# Altium integrated library Altium_WRIS-RSKS (rev23a).IntLib: 507 symbols (part 6 of 10)
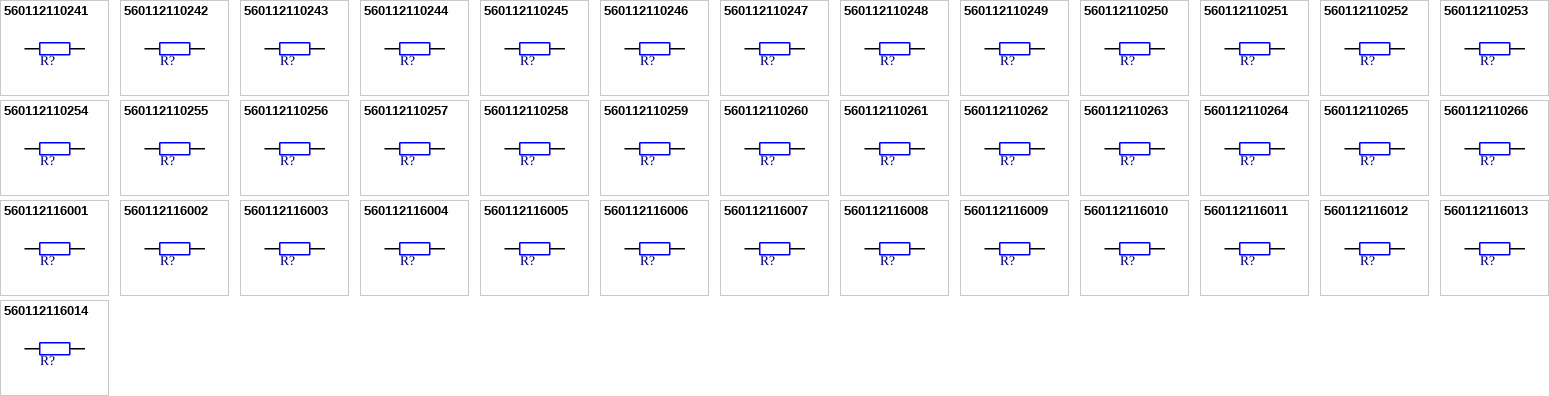
[diagram p17: symbols 560112110241 to 560112116014]

## 560112110266
designator R?, comment 2700Ohm, 100mW  (value not drawn)
WRIS-RSKS Thick Film Resistor, size 0402, 2700Ohm, 100mW; Manufacturer Part Number: 560112110266; Manufacturer: Wurth Elektronik; Case/Size Code: 0402; Limiting Element Voltage: 50V; Resistance Tolerance: +/-1%; Temperature Coefficient of Resistance Min: -100ppm/°C; Temperature Coefficient of Resistance Max: 100ppm/°C; Category: Thick Film Resistors; Match Code: WRIS-RSKS; ComponentLink1Description: Website Link; ComponentLink1URL: https://www.we-online.com/redexpert/article/560112110266?ad; ComponentLink2Description: Datasheet Link; ComponentLink2URL: https://www.we-online.com/redexpert/spec/560112110266?ad; Mount: Surface Mount; Operating Temperature Max: 155°C; Operating Temperature Min: -55°C; Packaging: Tape and Reel; Length: 1mm; Width: 0.5mm; Height: 0.35mm; Rated Power: 100mW; Resistance: 2700Ohm
footprint WRIS-RSKS_0402
pins: 1, 2

## 560112116001
designator R?, comment 100mW  (value not drawn)
WRIS-RSKS Thick Film Resistor, size 0603, 100mW; Manufacturer Part Number: 560112116001; Manufacturer: Wurth Elektronik; Case/Size Code: 0603; Category: Thick Film Resistors; Match Code: WRIS-RSKS; ComponentLink1Description: Website Link; ComponentLink1URL: https://www.we-online.com/redexpert/article/560112116001?ad; ComponentLink2Description: Datasheet Link; ComponentLink2URL: https://www.we-online.com/redexpert/spec/560112116001?ad; Mount: Surface Mount; Operating Temperature Max: 155°C; Operating Temperature Min: -55°C; Packaging: Tape and Reel; Length: 1.6mm; Width: 0.8mm; Height: 0.45mm; Rated Power: 100mW
footprint WRIS-RSKS_0603_Reflow
footprint WRIS-RSKS_0603_Wave
pins: 1, 2

## 560112116002
designator R?, comment 8200Ohm, 100mW  (value not drawn)
WRIS-RSKS Thick Film Resistor, size 0603, 8200Ohm, 100mW; Manufacturer Part Number: 560112116002; Manufacturer: Wurth Elektronik; Case/Size Code: 0603; Limiting Element Voltage: 75V; Resistance Tolerance: +/-1%; Temperature Coefficient of Resistance Min: -100ppm/°C; Temperature Coefficient of Resistance Max: 100ppm/°C; Category: Thick Film Resistors; Match Code: WRIS-RSKS; ComponentLink1Description: Website Link; ComponentLink1URL: https://www.we-online.com/redexpert/article/560112116002?ad; ComponentLink2Description: Datasheet Link; ComponentLink2URL: https://www.we-online.com/redexpert/spec/560112116002?ad; Mount: Surface Mount; Operating Temperature Max: 155°C; Operating Temperature Min: -55°C; Packaging: Tape and Reel; Length: 1.6mm; Width: 0.8mm; Height: 0.45mm; Rated Power: 100mW; Resistance: 8200Ohm
footprint WRIS-RSKS_0603_Reflow
footprint WRIS-RSKS_0603_Wave
pins: 1, 2

## 560112116003
designator R?, comment 40200Ohm, 100mW  (value not drawn)
WRIS-RSKS Thick Film Resistor, size 0603, 40200Ohm, 100mW; Manufacturer Part Number: 560112116003; Manufacturer: Wurth Elektronik; Case/Size Code: 0603; Limiting Element Voltage: 75V; Resistance Tolerance: +/-1%; Temperature Coefficient of Resistance Min: -100ppm/°C; Temperature Coefficient of Resistance Max: 100ppm/°C; Category: Thick Film Resistors; Match Code: WRIS-RSKS; ComponentLink1Description: Website Link; ComponentLink1URL: https://www.we-online.com/redexpert/article/560112116003?ad; ComponentLink2Description: Datasheet Link; ComponentLink2URL: https://www.we-online.com/redexpert/spec/560112116003?ad; Mount: Surface Mount; Operating Temperature Max: 155°C; Operating Temperature Min: -55°C; Packaging: Tape and Reel; Length: 1.6mm; Width: 0.8mm; Height: 0.45mm; Rated Power: 100mW; Resistance: 40200Ohm
footprint WRIS-RSKS_0603_Reflow
footprint WRIS-RSKS_0603_Wave
pins: 1, 2

## 560112116004
designator R?, comment 100000Ohm, 100mW  (value not drawn)
WRIS-RSKS Thick Film Resistor, size 0603, 100000Ohm, 100mW; Manufacturer Part Number: 560112116004; Manufacturer: Wurth Elektronik; Case/Size Code: 0603; Limiting Element Voltage: 75V; Resistance Tolerance: +/-1%; Temperature Coefficient of Resistance Min: -100ppm/°C; Temperature Coefficient of Resistance Max: 100ppm/°C; Category: Thick Film Resistors; Match Code: WRIS-RSKS; ComponentLink1Description: Website Link; ComponentLink1URL: https://www.we-online.com/redexpert/article/560112116004?ad; ComponentLink2Description: Datasheet Link; ComponentLink2URL: https://www.we-online.com/redexpert/spec/560112116004?ad; Mount: Surface Mount; Operating Temperature Max: 155°C; Operating Temperature Min: -55°C; Packaging: Tape and Reel; Length: 1.6mm; Width: 0.8mm; Height: 0.45mm; Rated Power: 100mW; Resistance: 100000Ohm
footprint WRIS-RSKS_0603_Reflow
footprint WRIS-RSKS_0603_Wave
pins: 1, 2

## 560112116005
designator R?, comment 10000Ohm, 100mW  (value not drawn)
WRIS-RSKS Thick Film Resistor, size 0603, 10000Ohm, 100mW; Manufacturer Part Number: 560112116005; Manufacturer: Wurth Elektronik; Case/Size Code: 0603; Limiting Element Voltage: 75V; Resistance Tolerance: +/-1%; Temperature Coefficient of Resistance Min: -100ppm/°C; Temperature Coefficient of Resistance Max: 100ppm/°C; Category: Thick Film Resistors; Match Code: WRIS-RSKS; ComponentLink1Description: Website Link; ComponentLink1URL: https://www.we-online.com/redexpert/article/560112116005?ad; ComponentLink2Description: Datasheet Link; ComponentLink2URL: https://www.we-online.com/redexpert/spec/560112116005?ad; Mount: Surface Mount; Operating Temperature Max: 155°C; Operating Temperature Min: -55°C; Packaging: Tape and Reel; Length: 1.6mm; Width: 0.8mm; Height: 0.45mm; Rated Power: 100mW; Resistance: 10000Ohm
footprint WRIS-RSKS_0603_Reflow
footprint WRIS-RSKS_0603_Wave
pins: 1, 2

## 560112116006
designator R?, comment 4700Ohm, 100mW  (value not drawn)
WRIS-RSKS Thick Film Resistor, size 0603, 4700Ohm, 100mW; Manufacturer Part Number: 560112116006; Manufacturer: Wurth Elektronik; Case/Size Code: 0603; Limiting Element Voltage: 75V; Resistance Tolerance: +/-1%; Temperature Coefficient of Resistance Min: -100ppm/°C; Temperature Coefficient of Resistance Max: 100ppm/°C; Category: Thick Film Resistors; Match Code: WRIS-RSKS; ComponentLink1Description: Website Link; ComponentLink1URL: https://www.we-online.com/redexpert/article/560112116006?ad; ComponentLink2Description: Datasheet Link; ComponentLink2URL: https://www.we-online.com/redexpert/spec/560112116006?ad; Mount: Surface Mount; Operating Temperature Max: 155°C; Operating Temperature Min: -55°C; Packaging: Tape and Reel; Length: 1.6mm; Width: 0.8mm; Height: 0.45mm; Rated Power: 100mW; Resistance: 4700Ohm
footprint WRIS-RSKS_0603_Reflow
footprint WRIS-RSKS_0603_Wave
pins: 1, 2

## 560112116007
designator R?, comment 6800Ohm, 100mW  (value not drawn)
WRIS-RSKS Thick Film Resistor, size 0603, 6800Ohm, 100mW; Manufacturer Part Number: 560112116007; Manufacturer: Wurth Elektronik; Case/Size Code: 0603; Limiting Element Voltage: 75V; Resistance Tolerance: +/-1%; Temperature Coefficient of Resistance Min: -100ppm/°C; Temperature Coefficient of Resistance Max: 100ppm/°C; Category: Thick Film Resistors; Match Code: WRIS-RSKS; ComponentLink1Description: Website Link; ComponentLink1URL: https://www.we-online.com/redexpert/article/560112116007?ad; ComponentLink2Description: Datasheet Link; ComponentLink2URL: https://www.we-online.com/redexpert/spec/560112116007?ad; Mount: Surface Mount; Operating Temperature Max: 155°C; Operating Temperature Min: -55°C; Packaging: Tape and Reel; Length: 1.6mm; Width: 0.8mm; Height: 0.45mm; Rated Power: 100mW; Resistance: 6800Ohm
footprint WRIS-RSKS_0603_Reflow
footprint WRIS-RSKS_0603_Wave
pins: 1, 2

## 560112116008
designator R?, comment 100Ohm, 100mW  (value not drawn)
WRIS-RSKS Thick Film Resistor, size 0603, 100Ohm, 100mW; Manufacturer Part Number: 560112116008; Manufacturer: Wurth Elektronik; Case/Size Code: 0603; Limiting Element Voltage: 75V; Resistance Tolerance: +/-5%; Temperature Coefficient of Resistance Min: -100ppm/°C; Temperature Coefficient of Resistance Max: 100ppm/°C; Category: Thick Film Resistors; Match Code: WRIS-RSKS; ComponentLink1Description: Website Link; ComponentLink1URL: https://www.we-online.com/redexpert/article/560112116008?ad; ComponentLink2Description: Datasheet Link; ComponentLink2URL: https://www.we-online.com/redexpert/spec/560112116008?ad; Mount: Surface Mount; Operating Temperature Max: 155°C; Operating Temperature Min: -55°C; Packaging: Tape and Reel; Length: 1.6mm; Width: 0.8mm; Height: 0.45mm; Rated Power: 100mW; Resistance: 100Ohm
footprint WRIS-RSKS_0603_Reflow
footprint WRIS-RSKS_0603_Wave
pins: 1, 2

## 560112116009
designator R?, comment 100Ohm, 100mW  (value not drawn)
WRIS-RSKS Thick Film Resistor, size 0603, 100Ohm, 100mW; Manufacturer Part Number: 560112116009; Manufacturer: Wurth Elektronik; Case/Size Code: 0603; Limiting Element Voltage: 75V; Resistance Tolerance: +/-1%; Temperature Coefficient of Resistance Min: -100ppm/°C; Temperature Coefficient of Resistance Max: 100ppm/°C; Category: Thick Film Resistors; Match Code: WRIS-RSKS; ComponentLink1Description: Website Link; ComponentLink1URL: https://www.we-online.com/redexpert/article/560112116009?ad; ComponentLink2Description: Datasheet Link; ComponentLink2URL: https://www.we-online.com/redexpert/spec/560112116009?ad; Mount: Surface Mount; Operating Temperature Max: 155°C; Operating Temperature Min: -55°C; Packaging: Tape and Reel; Length: 1.6mm; Width: 0.8mm; Height: 0.45mm; Rated Power: 100mW; Resistance: 100Ohm
footprint WRIS-RSKS_0603_Reflow
footprint WRIS-RSKS_0603_Wave
pins: 1, 2

## 560112116010
designator R?, comment 2700Ohm, 100mW  (value not drawn)
WRIS-RSKS Thick Film Resistor, size 0603, 2700Ohm, 100mW; Manufacturer Part Number: 560112116010; Manufacturer: Wurth Elektronik; Case/Size Code: 0603; Limiting Element Voltage: 75V; Resistance Tolerance: +/-1%; Temperature Coefficient of Resistance Min: -100ppm/°C; Temperature Coefficient of Resistance Max: 100ppm/°C; Category: Thick Film Resistors; Match Code: WRIS-RSKS; ComponentLink1Description: Website Link; ComponentLink1URL: https://www.we-online.com/redexpert/article/560112116010?ad; ComponentLink2Description: Datasheet Link; ComponentLink2URL: https://www.we-online.com/redexpert/spec/560112116010?ad; Mount: Surface Mount; Operating Temperature Max: 155°C; Operating Temperature Min: -55°C; Packaging: Tape and Reel; Length: 1.6mm; Width: 0.8mm; Height: 0.45mm; Rated Power: 100mW; Resistance: 2700Ohm
footprint WRIS-RSKS_0603_Reflow
footprint WRIS-RSKS_0603_Wave
pins: 1, 2

## 560112116011
designator R?, comment 22000Ohm, 100mW  (value not drawn)
WRIS-RSKS Thick Film Resistor, size 0603, 22000Ohm, 100mW; Manufacturer Part Number: 560112116011; Manufacturer: Wurth Elektronik; Case/Size Code: 0603; Limiting Element Voltage: 75V; Resistance Tolerance: +/-5%; Temperature Coefficient of Resistance Min: -100ppm/°C; Temperature Coefficient of Resistance Max: 100ppm/°C; Category: Thick Film Resistors; Match Code: WRIS-RSKS; ComponentLink1Description: Website Link; ComponentLink1URL: https://www.we-online.com/redexpert/article/560112116011?ad; ComponentLink2Description: Datasheet Link; ComponentLink2URL: https://www.we-online.com/redexpert/spec/560112116011?ad; Mount: Surface Mount; Operating Temperature Max: 155°C; Operating Temperature Min: -55°C; Packaging: Tape and Reel; Length: 1.6mm; Width: 0.8mm; Height: 0.45mm; Rated Power: 100mW; Resistance: 22000Ohm
footprint WRIS-RSKS_0603_Reflow
footprint WRIS-RSKS_0603_Wave
pins: 1, 2

## 560112116012
designator R?, comment 10000Ohm, 100mW  (value not drawn)
WRIS-RSKS Thick Film Resistor, size 0603, 10000Ohm, 100mW; Manufacturer Part Number: 560112116012; Manufacturer: Wurth Elektronik; Case/Size Code: 0603; Limiting Element Voltage: 75V; Resistance Tolerance: +/-5%; Temperature Coefficient of Resistance Min: -100ppm/°C; Temperature Coefficient of Resistance Max: 100ppm/°C; Category: Thick Film Resistors; Match Code: WRIS-RSKS; ComponentLink1Description: Website Link; ComponentLink1URL: https://www.we-online.com/redexpert/article/560112116012?ad; ComponentLink2Description: Datasheet Link; ComponentLink2URL: https://www.we-online.com/redexpert/spec/560112116012?ad; Mount: Surface Mount; Operating Temperature Max: 155°C; Operating Temperature Min: -55°C; Packaging: Tape and Reel; Length: 1.6mm; Width: 0.8mm; Height: 0.45mm; Rated Power: 100mW; Resistance: 10000Ohm
footprint WRIS-RSKS_0603_Reflow
footprint WRIS-RSKS_0603_Wave
pins: 1, 2

## 560112116013
designator R?, comment 10Ohm, 100mW  (value not drawn)
WRIS-RSKS Thick Film Resistor, size 0603, 10Ohm, 100mW; Manufacturer Part Number: 560112116013; Manufacturer: Wurth Elektronik; Case/Size Code: 0603; Limiting Element Voltage: 75V; Resistance Tolerance: +/-1%; Temperature Coefficient of Resistance Min: -200ppm/°C; Temperature Coefficient of Resistance Max: 400ppm/°C; Category: Thick Film Resistors; Match Code: WRIS-RSKS; ComponentLink1Description: Website Link; ComponentLink1URL: https://www.we-online.com/redexpert/article/560112116013?ad; ComponentLink2Description: Datasheet Link; ComponentLink2URL: https://www.we-online.com/redexpert/spec/560112116013?ad; Mount: Surface Mount; Operating Temperature Max: 155°C; Operating Temperature Min: -55°C; Packaging: Tape and Reel; Length: 1.6mm; Width: 0.8mm; Height: 0.45mm; Rated Power: 100mW; Resistance: 10Ohm
footprint WRIS-RSKS_0603_Reflow
footprint WRIS-RSKS_0603_Wave
pins: 1, 2

## 560112116014
designator R?, comment 1000Ohm, 100mW  (value not drawn)
WRIS-RSKS Thick Film Resistor, size 0603, 1000Ohm, 100mW; Manufacturer Part Number: 560112116014; Manufacturer: Wurth Elektronik; Case/Size Code: 0603; Limiting Element Voltage: 75V; Resistance Tolerance: +/-1%; Temperature Coefficient of Resistance Min: -100ppm/°C; Temperature Coefficient of Resistance Max: 100ppm/°C; Category: Thick Film Resistors; Match Code: WRIS-RSKS; ComponentLink1Description: Website Link; ComponentLink1URL: https://www.we-online.com/redexpert/article/560112116014?ad; ComponentLink2Description: Datasheet Link; ComponentLink2URL: https://www.we-online.com/redexpert/spec/560112116014?ad; Mount: Surface Mount; Operating Temperature Max: 155°C; Operating Temperature Min: -55°C; Packaging: Tape and Reel; Length: 1.6mm; Width: 0.8mm; Height: 0.45mm; Rated Power: 100mW; Resistance: 1000Ohm
footprint WRIS-RSKS_0603_Reflow
footprint WRIS-RSKS_0603_Wave
pins: 1, 2

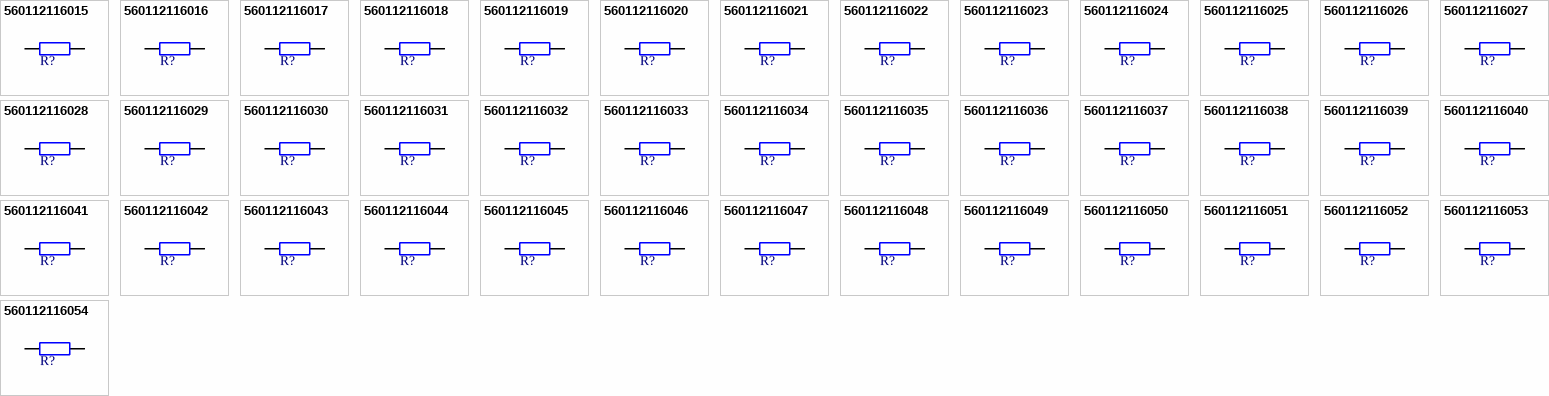
[diagram p7: symbols 560112116015 to 560112116054]

## 560112116015
designator R?, comment 20000Ohm, 100mW  (value not drawn)
WRIS-RSKS Thick Film Resistor, size 0603, 20000Ohm, 100mW; Manufacturer Part Number: 560112116015; Manufacturer: Wurth Elektronik; Case/Size Code: 0603; Limiting Element Voltage: 75V; Resistance Tolerance: +/-1%; Temperature Coefficient of Resistance Min: -100ppm/°C; Temperature Coefficient of Resistance Max: 100ppm/°C; Category: Thick Film Resistors; Match Code: WRIS-RSKS; ComponentLink1Description: Website Link; ComponentLink1URL: https://www.we-online.com/redexpert/article/560112116015?ad; ComponentLink2Description: Datasheet Link; ComponentLink2URL: https://www.we-online.com/redexpert/spec/560112116015?ad; Mount: Surface Mount; Operating Temperature Max: 155°C; Operating Temperature Min: -55°C; Packaging: Tape and Reel; Length: 1.6mm; Width: 0.8mm; Height: 0.45mm; Rated Power: 100mW; Resistance: 20000Ohm
footprint WRIS-RSKS_0603_Reflow
footprint WRIS-RSKS_0603_Wave
pins: 1, 2

## 560112116016
designator R?, comment 1000Ohm, 100mW  (value not drawn)
WRIS-RSKS Thick Film Resistor, size 0603, 1000Ohm, 100mW; Manufacturer Part Number: 560112116016; Manufacturer: Wurth Elektronik; Case/Size Code: 0603; Limiting Element Voltage: 75V; Resistance Tolerance: +/-5%; Temperature Coefficient of Resistance Min: -100ppm/°C; Temperature Coefficient of Resistance Max: 100ppm/°C; Category: Thick Film Resistors; Match Code: WRIS-RSKS; ComponentLink1Description: Website Link; ComponentLink1URL: https://www.we-online.com/redexpert/article/560112116016?ad; ComponentLink2Description: Datasheet Link; ComponentLink2URL: https://www.we-online.com/redexpert/spec/560112116016?ad; Mount: Surface Mount; Operating Temperature Max: 155°C; Operating Temperature Min: -55°C; Packaging: Tape and Reel; Length: 1.6mm; Width: 0.8mm; Height: 0.45mm; Rated Power: 100mW; Resistance: 1000Ohm
footprint WRIS-RSKS_0603_Reflow
footprint WRIS-RSKS_0603_Wave
pins: 1, 2

## 560112116017
designator R?, comment 5600Ohm, 100mW  (value not drawn)
WRIS-RSKS Thick Film Resistor, size 0603, 5600Ohm, 100mW; Manufacturer Part Number: 560112116017; Manufacturer: Wurth Elektronik; Case/Size Code: 0603; Limiting Element Voltage: 75V; Resistance Tolerance: +/-1%; Temperature Coefficient of Resistance Min: -100ppm/°C; Temperature Coefficient of Resistance Max: 100ppm/°C; Category: Thick Film Resistors; Match Code: WRIS-RSKS; ComponentLink1Description: Website Link; ComponentLink1URL: https://www.we-online.com/redexpert/article/560112116017?ad; ComponentLink2Description: Datasheet Link; ComponentLink2URL: https://www.we-online.com/redexpert/spec/560112116017?ad; Mount: Surface Mount; Operating Temperature Max: 155°C; Operating Temperature Min: -55°C; Packaging: Tape and Reel; Length: 1.6mm; Width: 0.8mm; Height: 0.45mm; Rated Power: 100mW; Resistance: 5600Ohm
footprint WRIS-RSKS_0603_Reflow
footprint WRIS-RSKS_0603_Wave
pins: 1, 2

## 560112116018
designator R?, comment 127000Ohm, 100mW  (value not drawn)
WRIS-RSKS Thick Film Resistor, size 0603, 127000Ohm, 100mW; Manufacturer Part Number: 560112116018; Manufacturer: Wurth Elektronik; Case/Size Code: 0603; Limiting Element Voltage: 75V; Resistance Tolerance: +/-1%; Temperature Coefficient of Resistance Min: -100ppm/°C; Temperature Coefficient of Resistance Max: 100ppm/°C; Category: Thick Film Resistors; Match Code: WRIS-RSKS; ComponentLink1Description: Website Link; ComponentLink1URL: https://www.we-online.com/redexpert/article/560112116018?ad; ComponentLink2Description: Datasheet Link; ComponentLink2URL: https://www.we-online.com/redexpert/spec/560112116018?ad; Mount: Surface Mount; Operating Temperature Max: 155°C; Operating Temperature Min: -55°C; Packaging: Tape and Reel; Length: 1.6mm; Width: 0.8mm; Height: 0.45mm; Rated Power: 100mW; Resistance: 127000Ohm
footprint WRIS-RSKS_0603_Reflow
footprint WRIS-RSKS_0603_Wave
pins: 1, 2

## 560112116019
designator R?, comment 470000Ohm, 100mW  (value not drawn)
WRIS-RSKS Thick Film Resistor, size 0603, 470000Ohm, 100mW; Manufacturer Part Number: 560112116019; Manufacturer: Wurth Elektronik; Case/Size Code: 0603; Limiting Element Voltage: 75V; Resistance Tolerance: +/-1%; Temperature Coefficient of Resistance Min: -100ppm/°C; Temperature Coefficient of Resistance Max: 100ppm/°C; Category: Thick Film Resistors; Match Code: WRIS-RSKS; ComponentLink1Description: Website Link; ComponentLink1URL: https://www.we-online.com/redexpert/article/560112116019?ad; ComponentLink2Description: Datasheet Link; ComponentLink2URL: https://www.we-online.com/redexpert/spec/560112116019?ad; Mount: Surface Mount; Operating Temperature Max: 155°C; Operating Temperature Min: -55°C; Packaging: Tape and Reel; Length: 1.6mm; Width: 0.8mm; Height: 0.45mm; Rated Power: 100mW; Resistance: 470000Ohm
footprint WRIS-RSKS_0603_Reflow
footprint WRIS-RSKS_0603_Wave
pins: 1, 2

## 560112116020
designator R?, comment 330Ohm, 100mW  (value not drawn)
WRIS-RSKS Thick Film Resistor, size 0603, 330Ohm, 100mW; Manufacturer Part Number: 560112116020; Manufacturer: Wurth Elektronik; Case/Size Code: 0603; Limiting Element Voltage: 75V; Resistance Tolerance: +/-1%; Temperature Coefficient of Resistance Min: -100ppm/°C; Temperature Coefficient of Resistance Max: 100ppm/°C; Category: Thick Film Resistors; Match Code: WRIS-RSKS; ComponentLink1Description: Website Link; ComponentLink1URL: https://www.we-online.com/redexpert/article/560112116020?ad; ComponentLink2Description: Datasheet Link; ComponentLink2URL: https://www.we-online.com/redexpert/spec/560112116020?ad; Mount: Surface Mount; Operating Temperature Max: 155°C; Operating Temperature Min: -55°C; Packaging: Tape and Reel; Length: 1.6mm; Width: 0.8mm; Height: 0.45mm; Rated Power: 100mW; Resistance: 330Ohm
footprint WRIS-RSKS_0603_Reflow
footprint WRIS-RSKS_0603_Wave
pins: 1, 2

## 560112116021
designator R?, comment 3900Ohm, 100mW  (value not drawn)
WRIS-RSKS Thick Film Resistor, size 0603, 3900Ohm, 100mW; Manufacturer Part Number: 560112116021; Manufacturer: Wurth Elektronik; Case/Size Code: 0603; Limiting Element Voltage: 75V; Resistance Tolerance: +/-1%; Temperature Coefficient of Resistance Min: -100ppm/°C; Temperature Coefficient of Resistance Max: 100ppm/°C; Category: Thick Film Resistors; Match Code: WRIS-RSKS; ComponentLink1Description: Website Link; ComponentLink1URL: https://www.we-online.com/redexpert/article/560112116021?ad; ComponentLink2Description: Datasheet Link; ComponentLink2URL: https://www.we-online.com/redexpert/spec/560112116021?ad; Mount: Surface Mount; Operating Temperature Max: 155°C; Operating Temperature Min: -55°C; Packaging: Tape and Reel; Length: 1.6mm; Width: 0.8mm; Height: 0.45mm; Rated Power: 100mW; Resistance: 3900Ohm
footprint WRIS-RSKS_0603_Reflow
footprint WRIS-RSKS_0603_Wave
pins: 1, 2

## 560112116022
designator R?, comment 22000Ohm, 100mW  (value not drawn)
WRIS-RSKS Thick Film Resistor, size 0603, 22000Ohm, 100mW; Manufacturer Part Number: 560112116022; Manufacturer: Wurth Elektronik; Case/Size Code: 0603; Limiting Element Voltage: 75V; Resistance Tolerance: +/-1%; Temperature Coefficient of Resistance Min: -100ppm/°C; Temperature Coefficient of Resistance Max: 100ppm/°C; Category: Thick Film Resistors; Match Code: WRIS-RSKS; ComponentLink1Description: Website Link; ComponentLink1URL: https://www.we-online.com/redexpert/article/560112116022?ad; ComponentLink2Description: Datasheet Link; ComponentLink2URL: https://www.we-online.com/redexpert/spec/560112116022?ad; Mount: Surface Mount; Operating Temperature Max: 155°C; Operating Temperature Min: -55°C; Packaging: Tape and Reel; Length: 1.6mm; Width: 0.8mm; Height: 0.45mm; Rated Power: 100mW; Resistance: 22000Ohm
footprint WRIS-RSKS_0603_Reflow
footprint WRIS-RSKS_0603_Wave
pins: 1, 2

## 560112116023
designator R?, comment 27000Ohm, 100mW  (value not drawn)
WRIS-RSKS Thick Film Resistor, size 0603, 27000Ohm, 100mW; Manufacturer Part Number: 560112116023; Manufacturer: Wurth Elektronik; Case/Size Code: 0603; Limiting Element Voltage: 75V; Resistance Tolerance: +/-1%; Temperature Coefficient of Resistance Min: -100ppm/°C; Temperature Coefficient of Resistance Max: 100ppm/°C; Category: Thick Film Resistors; Match Code: WRIS-RSKS; ComponentLink1Description: Website Link; ComponentLink1URL: https://www.we-online.com/redexpert/article/560112116023?ad; ComponentLink2Description: Datasheet Link; ComponentLink2URL: https://www.we-online.com/redexpert/spec/560112116023?ad; Mount: Surface Mount; Operating Temperature Max: 155°C; Operating Temperature Min: -55°C; Packaging: Tape and Reel; Length: 1.6mm; Width: 0.8mm; Height: 0.45mm; Rated Power: 100mW; Resistance: 27000Ohm
footprint WRIS-RSKS_0603_Reflow
footprint WRIS-RSKS_0603_Wave
pins: 1, 2

## 560112116024
designator R?, comment 390000Ohm, 100mW  (value not drawn)
WRIS-RSKS Thick Film Resistor, size 0603, 390000Ohm, 100mW; Manufacturer Part Number: 560112116024; Manufacturer: Wurth Elektronik; Case/Size Code: 0603; Limiting Element Voltage: 75V; Resistance Tolerance: +/-1%; Temperature Coefficient of Resistance Min: -100ppm/°C; Temperature Coefficient of Resistance Max: 100ppm/°C; Category: Thick Film Resistors; Match Code: WRIS-RSKS; ComponentLink1Description: Website Link; ComponentLink1URL: https://www.we-online.com/redexpert/article/560112116024?ad; ComponentLink2Description: Datasheet Link; ComponentLink2URL: https://www.we-online.com/redexpert/spec/560112116024?ad; Mount: Surface Mount; Operating Temperature Max: 155°C; Operating Temperature Min: -55°C; Packaging: Tape and Reel; Length: 1.6mm; Width: 0.8mm; Height: 0.45mm; Rated Power: 100mW; Resistance: 390000Ohm
footprint WRIS-RSKS_0603_Reflow
footprint WRIS-RSKS_0603_Wave
pins: 1, 2

## 560112116025
designator R?, comment 47000Ohm, 100mW  (value not drawn)
WRIS-RSKS Thick Film Resistor, size 0603, 47000Ohm, 100mW; Manufacturer Part Number: 560112116025; Manufacturer: Wurth Elektronik; Case/Size Code: 0603; Limiting Element Voltage: 75V; Resistance Tolerance: +/-1%; Temperature Coefficient of Resistance Min: -100ppm/°C; Temperature Coefficient of Resistance Max: 100ppm/°C; Category: Thick Film Resistors; Match Code: WRIS-RSKS; ComponentLink1Description: Website Link; ComponentLink1URL: https://www.we-online.com/redexpert/article/560112116025?ad; ComponentLink2Description: Datasheet Link; ComponentLink2URL: https://www.we-online.com/redexpert/spec/560112116025?ad; Mount: Surface Mount; Operating Temperature Max: 155°C; Operating Temperature Min: -55°C; Packaging: Tape and Reel; Length: 1.6mm; Width: 0.8mm; Height: 0.45mm; Rated Power: 100mW; Resistance: 47000Ohm
footprint WRIS-RSKS_0603_Reflow
footprint WRIS-RSKS_0603_Wave
pins: 1, 2

## 560112116026
designator R?, comment 100000Ohm, 100mW  (value not drawn)
WRIS-RSKS Thick Film Resistor, size 0603, 100000Ohm, 100mW; Manufacturer Part Number: 560112116026; Manufacturer: Wurth Elektronik; Case/Size Code: 0603; Limiting Element Voltage: 75V; Resistance Tolerance: +/-5%; Temperature Coefficient of Resistance Min: -100ppm/°C; Temperature Coefficient of Resistance Max: 100ppm/°C; Category: Thick Film Resistors; Match Code: WRIS-RSKS; ComponentLink1Description: Website Link; ComponentLink1URL: https://www.we-online.com/redexpert/article/560112116026?ad; ComponentLink2Description: Datasheet Link; ComponentLink2URL: https://www.we-online.com/redexpert/spec/560112116026?ad; Mount: Surface Mount; Operating Temperature Max: 155°C; Operating Temperature Min: -55°C; Packaging: Tape and Reel; Length: 1.6mm; Width: 0.8mm; Height: 0.45mm; Rated Power: 100mW; Resistance: 100000Ohm
footprint WRIS-RSKS_0603_Reflow
footprint WRIS-RSKS_0603_Wave
pins: 1, 2

## 560112116027
designator R?, comment 680Ohm, 100mW  (value not drawn)
WRIS-RSKS Thick Film Resistor, size 0603, 680Ohm, 100mW; Manufacturer Part Number: 560112116027; Manufacturer: Wurth Elektronik; Case/Size Code: 0603; Limiting Element Voltage: 75V; Resistance Tolerance: +/-5%; Temperature Coefficient of Resistance Min: -100ppm/°C; Temperature Coefficient of Resistance Max: 100ppm/°C; Category: Thick Film Resistors; Match Code: WRIS-RSKS; ComponentLink1Description: Website Link; ComponentLink1URL: https://www.we-online.com/redexpert/article/560112116027?ad; ComponentLink2Description: Datasheet Link; ComponentLink2URL: https://www.we-online.com/redexpert/spec/560112116027?ad; Mount: Surface Mount; Operating Temperature Max: 155°C; Operating Temperature Min: -55°C; Packaging: Tape and Reel; Length: 1.6mm; Width: 0.8mm; Height: 0.45mm; Rated Power: 100mW; Resistance: 680Ohm
footprint WRIS-RSKS_0603_Reflow
footprint WRIS-RSKS_0603_Wave
pins: 1, 2

## 560112116028
designator R?, comment 56000Ohm, 100mW  (value not drawn)
WRIS-RSKS Thick Film Resistor, size 0603, 56000Ohm, 100mW; Manufacturer Part Number: 560112116028; Manufacturer: Wurth Elektronik; Case/Size Code: 0603; Limiting Element Voltage: 75V; Resistance Tolerance: +/-1%; Temperature Coefficient of Resistance Min: -100ppm/°C; Temperature Coefficient of Resistance Max: 100ppm/°C; Category: Thick Film Resistors; Match Code: WRIS-RSKS; ComponentLink1Description: Website Link; ComponentLink1URL: https://www.we-online.com/redexpert/article/560112116028?ad; ComponentLink2Description: Datasheet Link; ComponentLink2URL: https://www.we-online.com/redexpert/spec/560112116028?ad; Mount: Surface Mount; Operating Temperature Max: 155°C; Operating Temperature Min: -55°C; Packaging: Tape and Reel; Length: 1.6mm; Width: 0.8mm; Height: 0.45mm; Rated Power: 100mW; Resistance: 56000Ohm
footprint WRIS-RSKS_0603_Reflow
footprint WRIS-RSKS_0603_Wave
pins: 1, 2

## 560112116029
designator R?, comment 220Ohm, 100mW  (value not drawn)
WRIS-RSKS Thick Film Resistor, size 0603, 220Ohm, 100mW; Manufacturer Part Number: 560112116029; Manufacturer: Wurth Elektronik; Case/Size Code: 0603; Limiting Element Voltage: 75V; Resistance Tolerance: +/-5%; Temperature Coefficient of Resistance Min: -100ppm/°C; Temperature Coefficient of Resistance Max: 100ppm/°C; Category: Thick Film Resistors; Match Code: WRIS-RSKS; ComponentLink1Description: Website Link; ComponentLink1URL: https://www.we-online.com/redexpert/article/560112116029?ad; ComponentLink2Description: Datasheet Link; ComponentLink2URL: https://www.we-online.com/redexpert/spec/560112116029?ad; Mount: Surface Mount; Operating Temperature Max: 155°C; Operating Temperature Min: -55°C; Packaging: Tape and Reel; Length: 1.6mm; Width: 0.8mm; Height: 0.45mm; Rated Power: 100mW; Resistance: 220Ohm
footprint WRIS-RSKS_0603_Reflow
footprint WRIS-RSKS_0603_Wave
pins: 1, 2

## 560112116030
designator R?, comment 33000Ohm, 100mW  (value not drawn)
WRIS-RSKS Thick Film Resistor, size 0603, 33000Ohm, 100mW; Manufacturer Part Number: 560112116030; Manufacturer: Wurth Elektronik; Case/Size Code: 0603; Limiting Element Voltage: 75V; Resistance Tolerance: +/-1%; Temperature Coefficient of Resistance Min: -100ppm/°C; Temperature Coefficient of Resistance Max: 100ppm/°C; Category: Thick Film Resistors; Match Code: WRIS-RSKS; ComponentLink1Description: Website Link; ComponentLink1URL: https://www.we-online.com/redexpert/article/560112116030?ad; ComponentLink2Description: Datasheet Link; ComponentLink2URL: https://www.we-online.com/redexpert/spec/560112116030?ad; Mount: Surface Mount; Operating Temperature Max: 155°C; Operating Temperature Min: -55°C; Packaging: Tape and Reel; Length: 1.6mm; Width: 0.8mm; Height: 0.45mm; Rated Power: 100mW; Resistance: 33000Ohm
footprint WRIS-RSKS_0603_Reflow
footprint WRIS-RSKS_0603_Wave
pins: 1, 2

## 560112116031
designator R?, comment 470Ohm, 100mW  (value not drawn)
WRIS-RSKS Thick Film Resistor, size 0603, 470Ohm, 100mW; Manufacturer Part Number: 560112116031; Manufacturer: Wurth Elektronik; Case/Size Code: 0603; Limiting Element Voltage: 75V; Resistance Tolerance: +/-5%; Temperature Coefficient of Resistance Min: -100ppm/°C; Temperature Coefficient of Resistance Max: 100ppm/°C; Category: Thick Film Resistors; Match Code: WRIS-RSKS; ComponentLink1Description: Website Link; ComponentLink1URL: https://www.we-online.com/redexpert/article/560112116031?ad; ComponentLink2Description: Datasheet Link; ComponentLink2URL: https://www.we-online.com/redexpert/spec/560112116031?ad; Mount: Surface Mount; Operating Temperature Max: 155°C; Operating Temperature Min: -55°C; Packaging: Tape and Reel; Length: 1.6mm; Width: 0.8mm; Height: 0.45mm; Rated Power: 100mW; Resistance: 470Ohm
footprint WRIS-RSKS_0603_Reflow
footprint WRIS-RSKS_0603_Wave
pins: 1, 2

## 560112116032
designator R?, comment 1800Ohm, 100mW  (value not drawn)
WRIS-RSKS Thick Film Resistor, size 0603, 1800Ohm, 100mW; Manufacturer Part Number: 560112116032; Manufacturer: Wurth Elektronik; Case/Size Code: 0603; Limiting Element Voltage: 75V; Resistance Tolerance: +/-1%; Temperature Coefficient of Resistance Min: -100ppm/°C; Temperature Coefficient of Resistance Max: 100ppm/°C; Category: Thick Film Resistors; Match Code: WRIS-RSKS; ComponentLink1Description: Website Link; ComponentLink1URL: https://www.we-online.com/redexpert/article/560112116032?ad; ComponentLink2Description: Datasheet Link; ComponentLink2URL: https://www.we-online.com/redexpert/spec/560112116032?ad; Mount: Surface Mount; Operating Temperature Max: 155°C; Operating Temperature Min: -55°C; Packaging: Tape and Reel; Length: 1.6mm; Width: 0.8mm; Height: 0.45mm; Rated Power: 100mW; Resistance: 1800Ohm
footprint WRIS-RSKS_0603_Reflow
footprint WRIS-RSKS_0603_Wave
pins: 1, 2

## 560112116033
designator R?, comment 10Ohm, 100mW  (value not drawn)
WRIS-RSKS Thick Film Resistor, size 0603, 10Ohm, 100mW; Manufacturer Part Number: 560112116033; Manufacturer: Wurth Elektronik; Case/Size Code: 0603; Limiting Element Voltage: 75V; Resistance Tolerance: +/-5%; Temperature Coefficient of Resistance Min: -200ppm/°C; Temperature Coefficient of Resistance Max: 400ppm/°C; Category: Thick Film Resistors; Match Code: WRIS-RSKS; ComponentLink1Description: Website Link; ComponentLink1URL: https://www.we-online.com/redexpert/article/560112116033?ad; ComponentLink2Description: Datasheet Link; ComponentLink2URL: https://www.we-online.com/redexpert/spec/560112116033?ad; Mount: Surface Mount; Operating Temperature Max: 155°C; Operating Temperature Min: -55°C; Packaging: Tape and Reel; Length: 1.6mm; Width: 0.8mm; Height: 0.45mm; Rated Power: 100mW; Resistance: 10Ohm
footprint WRIS-RSKS_0603_Reflow
footprint WRIS-RSKS_0603_Wave
pins: 1, 2

## 560112116034
designator R?, comment 33Ohm, 100mW  (value not drawn)
WRIS-RSKS Thick Film Resistor, size 0603, 33Ohm, 100mW; Manufacturer Part Number: 560112116034; Manufacturer: Wurth Elektronik; Case/Size Code: 0603; Limiting Element Voltage: 75V; Resistance Tolerance: +/-1%; Temperature Coefficient of Resistance Min: -100ppm/°C; Temperature Coefficient of Resistance Max: 100ppm/°C; Category: Thick Film Resistors; Match Code: WRIS-RSKS; ComponentLink1Description: Website Link; ComponentLink1URL: https://www.we-online.com/redexpert/article/560112116034?ad; ComponentLink2Description: Datasheet Link; ComponentLink2URL: https://www.we-online.com/redexpert/spec/560112116034?ad; Mount: Surface Mount; Operating Temperature Max: 155°C; Operating Temperature Min: -55°C; Packaging: Tape and Reel; Length: 1.6mm; Width: 0.8mm; Height: 0.45mm; Rated Power: 100mW; Resistance: 33Ohm
footprint WRIS-RSKS_0603_Reflow
footprint WRIS-RSKS_0603_Wave
pins: 1, 2

## 560112116035
designator R?, comment 15000Ohm, 100mW  (value not drawn)
WRIS-RSKS Thick Film Resistor, size 0603, 15000Ohm, 100mW; Manufacturer Part Number: 560112116035; Manufacturer: Wurth Elektronik; Case/Size Code: 0603; Limiting Element Voltage: 75V; Resistance Tolerance: +/-1%; Temperature Coefficient of Resistance Min: -100ppm/°C; Temperature Coefficient of Resistance Max: 100ppm/°C; Category: Thick Film Resistors; Match Code: WRIS-RSKS; ComponentLink1Description: Website Link; ComponentLink1URL: https://www.we-online.com/redexpert/article/560112116035?ad; ComponentLink2Description: Datasheet Link; ComponentLink2URL: https://www.we-online.com/redexpert/spec/560112116035?ad; Mount: Surface Mount; Operating Temperature Max: 155°C; Operating Temperature Min: -55°C; Packaging: Tape and Reel; Length: 1.6mm; Width: 0.8mm; Height: 0.45mm; Rated Power: 100mW; Resistance: 15000Ohm
footprint WRIS-RSKS_0603_Reflow
footprint WRIS-RSKS_0603_Wave
pins: 1, 2

## 560112116036
designator R?, comment 13300Ohm, 100mW  (value not drawn)
WRIS-RSKS Thick Film Resistor, size 0603, 13300Ohm, 100mW; Manufacturer Part Number: 560112116036; Manufacturer: Wurth Elektronik; Case/Size Code: 0603; Limiting Element Voltage: 75V; Resistance Tolerance: +/-1%; Temperature Coefficient of Resistance Min: -100ppm/°C; Temperature Coefficient of Resistance Max: 100ppm/°C; Category: Thick Film Resistors; Match Code: WRIS-RSKS; ComponentLink1Description: Website Link; ComponentLink1URL: https://www.we-online.com/redexpert/article/560112116036?ad; ComponentLink2Description: Datasheet Link; ComponentLink2URL: https://www.we-online.com/redexpert/spec/560112116036?ad; Mount: Surface Mount; Operating Temperature Max: 155°C; Operating Temperature Min: -55°C; Packaging: Tape and Reel; Length: 1.6mm; Width: 0.8mm; Height: 0.45mm; Rated Power: 100mW; Resistance: 13300Ohm
footprint WRIS-RSKS_0603_Reflow
footprint WRIS-RSKS_0603_Wave
pins: 1, 2

## 560112116037
designator R?, comment 270Ohm, 100mW  (value not drawn)
WRIS-RSKS Thick Film Resistor, size 0603, 270Ohm, 100mW; Manufacturer Part Number: 560112116037; Manufacturer: Wurth Elektronik; Case/Size Code: 0603; Limiting Element Voltage: 75V; Resistance Tolerance: +/-5%; Temperature Coefficient of Resistance Min: -100ppm/°C; Temperature Coefficient of Resistance Max: 100ppm/°C; Category: Thick Film Resistors; Match Code: WRIS-RSKS; ComponentLink1Description: Website Link; ComponentLink1URL: https://www.we-online.com/redexpert/article/560112116037?ad; ComponentLink2Description: Datasheet Link; ComponentLink2URL: https://www.we-online.com/redexpert/spec/560112116037?ad; Mount: Surface Mount; Operating Temperature Max: 155°C; Operating Temperature Min: -55°C; Packaging: Tape and Reel; Length: 1.6mm; Width: 0.8mm; Height: 0.45mm; Rated Power: 100mW; Resistance: 270Ohm
footprint WRIS-RSKS_0603_Reflow
footprint WRIS-RSKS_0603_Wave
pins: 1, 2

## 560112116038
designator R?, comment 1500Ohm, 100mW  (value not drawn)
WRIS-RSKS Thick Film Resistor, size 0603, 1500Ohm, 100mW; Manufacturer Part Number: 560112116038; Manufacturer: Wurth Elektronik; Case/Size Code: 0603; Limiting Element Voltage: 75V; Resistance Tolerance: +/-1%; Temperature Coefficient of Resistance Min: -100ppm/°C; Temperature Coefficient of Resistance Max: 100ppm/°C; Category: Thick Film Resistors; Match Code: WRIS-RSKS; ComponentLink1Description: Website Link; ComponentLink1URL: https://www.we-online.com/redexpert/article/560112116038?ad; ComponentLink2Description: Datasheet Link; ComponentLink2URL: https://www.we-online.com/redexpert/spec/560112116038?ad; Mount: Surface Mount; Operating Temperature Max: 155°C; Operating Temperature Min: -55°C; Packaging: Tape and Reel; Length: 1.6mm; Width: 0.8mm; Height: 0.45mm; Rated Power: 100mW; Resistance: 1500Ohm
footprint WRIS-RSKS_0603_Reflow
footprint WRIS-RSKS_0603_Wave
pins: 1, 2

## 560112116039
designator R?, comment 330000Ohm, 100mW  (value not drawn)
WRIS-RSKS Thick Film Resistor, size 0603, 330000Ohm, 100mW; Manufacturer Part Number: 560112116039; Manufacturer: Wurth Elektronik; Case/Size Code: 0603; Limiting Element Voltage: 75V; Resistance Tolerance: +/-1%; Temperature Coefficient of Resistance Min: -100ppm/°C; Temperature Coefficient of Resistance Max: 100ppm/°C; Category: Thick Film Resistors; Match Code: WRIS-RSKS; ComponentLink1Description: Website Link; ComponentLink1URL: https://www.we-online.com/redexpert/article/560112116039?ad; ComponentLink2Description: Datasheet Link; ComponentLink2URL: https://www.we-online.com/redexpert/spec/560112116039?ad; Mount: Surface Mount; Operating Temperature Max: 155°C; Operating Temperature Min: -55°C; Packaging: Tape and Reel; Length: 1.6mm; Width: 0.8mm; Height: 0.45mm; Rated Power: 100mW; Resistance: 330000Ohm
footprint WRIS-RSKS_0603_Reflow
footprint WRIS-RSKS_0603_Wave
pins: 1, 2

## 560112116040
designator R?, comment 12000Ohm, 100mW  (value not drawn)
WRIS-RSKS Thick Film Resistor, size 0603, 12000Ohm, 100mW; Manufacturer Part Number: 560112116040; Manufacturer: Wurth Elektronik; Case/Size Code: 0603; Limiting Element Voltage: 75V; Resistance Tolerance: +/-1%; Temperature Coefficient of Resistance Min: -100ppm/°C; Temperature Coefficient of Resistance Max: 100ppm/°C; Category: Thick Film Resistors; Match Code: WRIS-RSKS; ComponentLink1Description: Website Link; ComponentLink1URL: https://www.we-online.com/redexpert/article/560112116040?ad; ComponentLink2Description: Datasheet Link; ComponentLink2URL: https://www.we-online.com/redexpert/spec/560112116040?ad; Mount: Surface Mount; Operating Temperature Max: 155°C; Operating Temperature Min: -55°C; Packaging: Tape and Reel; Length: 1.6mm; Width: 0.8mm; Height: 0.45mm; Rated Power: 100mW; Resistance: 12000Ohm
footprint WRIS-RSKS_0603_Reflow
footprint WRIS-RSKS_0603_Wave
pins: 1, 2

## 560112116041
designator R?, comment 150Ohm, 100mW  (value not drawn)
WRIS-RSKS Thick Film Resistor, size 0603, 150Ohm, 100mW; Manufacturer Part Number: 560112116041; Manufacturer: Wurth Elektronik; Case/Size Code: 0603; Limiting Element Voltage: 75V; Resistance Tolerance: +/-1%; Temperature Coefficient of Resistance Min: -100ppm/°C; Temperature Coefficient of Resistance Max: 100ppm/°C; Category: Thick Film Resistors; Match Code: WRIS-RSKS; ComponentLink1Description: Website Link; ComponentLink1URL: https://www.we-online.com/redexpert/article/560112116041?ad; ComponentLink2Description: Datasheet Link; ComponentLink2URL: https://www.we-online.com/redexpert/spec/560112116041?ad; Mount: Surface Mount; Operating Temperature Max: 155°C; Operating Temperature Min: -55°C; Packaging: Tape and Reel; Length: 1.6mm; Width: 0.8mm; Height: 0.45mm; Rated Power: 100mW; Resistance: 150Ohm
footprint WRIS-RSKS_0603_Reflow
footprint WRIS-RSKS_0603_Wave
pins: 1, 2

## 560112116042
designator R?, comment 196000Ohm, 100mW  (value not drawn)
WRIS-RSKS Thick Film Resistor, size 0603, 196000Ohm, 100mW; Manufacturer Part Number: 560112116042; Manufacturer: Wurth Elektronik; Case/Size Code: 0603; Limiting Element Voltage: 75V; Resistance Tolerance: +/-1%; Temperature Coefficient of Resistance Min: -100ppm/°C; Temperature Coefficient of Resistance Max: 100ppm/°C; Category: Thick Film Resistors; Match Code: WRIS-RSKS; ComponentLink1Description: Website Link; ComponentLink1URL: https://www.we-online.com/redexpert/article/560112116042?ad; ComponentLink2Description: Datasheet Link; ComponentLink2URL: https://www.we-online.com/redexpert/spec/560112116042?ad; Mount: Surface Mount; Operating Temperature Max: 155°C; Operating Temperature Min: -55°C; Packaging: Tape and Reel; Length: 1.6mm; Width: 0.8mm; Height: 0.45mm; Rated Power: 100mW; Resistance: 196000Ohm
footprint WRIS-RSKS_0603_Reflow
footprint WRIS-RSKS_0603_Wave
pins: 1, 2

## 560112116043
designator R?, comment 22Ohm, 100mW  (value not drawn)
WRIS-RSKS Thick Film Resistor, size 0603, 22Ohm, 100mW; Manufacturer Part Number: 560112116043; Manufacturer: Wurth Elektronik; Case/Size Code: 0603; Limiting Element Voltage: 75V; Resistance Tolerance: +/-5%; Temperature Coefficient of Resistance Min: -100ppm/°C; Temperature Coefficient of Resistance Max: 100ppm/°C; Category: Thick Film Resistors; Match Code: WRIS-RSKS; ComponentLink1Description: Website Link; ComponentLink1URL: https://www.we-online.com/redexpert/article/560112116043?ad; ComponentLink2Description: Datasheet Link; ComponentLink2URL: https://www.we-online.com/redexpert/spec/560112116043?ad; Mount: Surface Mount; Operating Temperature Max: 155°C; Operating Temperature Min: -55°C; Packaging: Tape and Reel; Length: 1.6mm; Width: 0.8mm; Height: 0.45mm; Rated Power: 100mW; Resistance: 22Ohm
footprint WRIS-RSKS_0603_Reflow
footprint WRIS-RSKS_0603_Wave
pins: 1, 2

## 560112116044
designator R?, comment 120000Ohm, 100mW  (value not drawn)
WRIS-RSKS Thick Film Resistor, size 0603, 120000Ohm, 100mW; Manufacturer Part Number: 560112116044; Manufacturer: Wurth Elektronik; Case/Size Code: 0603; Limiting Element Voltage: 75V; Resistance Tolerance: +/-1%; Temperature Coefficient of Resistance Min: -100ppm/°C; Temperature Coefficient of Resistance Max: 100ppm/°C; Category: Thick Film Resistors; Match Code: WRIS-RSKS; ComponentLink1Description: Website Link; ComponentLink1URL: https://www.we-online.com/redexpert/article/560112116044?ad; ComponentLink2Description: Datasheet Link; ComponentLink2URL: https://www.we-online.com/redexpert/spec/560112116044?ad; Mount: Surface Mount; Operating Temperature Max: 155°C; Operating Temperature Min: -55°C; Packaging: Tape and Reel; Length: 1.6mm; Width: 0.8mm; Height: 0.45mm; Rated Power: 100mW; Resistance: 120000Ohm
footprint WRIS-RSKS_0603_Reflow
footprint WRIS-RSKS_0603_Wave
pins: 1, 2

## 560112116045
designator R?, comment 4700Ohm, 100mW  (value not drawn)
WRIS-RSKS Thick Film Resistor, size 0603, 4700Ohm, 100mW; Manufacturer Part Number: 560112116045; Manufacturer: Wurth Elektronik; Case/Size Code: 0603; Limiting Element Voltage: 75V; Resistance Tolerance: +/-5%; Temperature Coefficient of Resistance Min: -100ppm/°C; Temperature Coefficient of Resistance Max: 100ppm/°C; Category: Thick Film Resistors; Match Code: WRIS-RSKS; ComponentLink1Description: Website Link; ComponentLink1URL: https://www.we-online.com/redexpert/article/560112116045?ad; ComponentLink2Description: Datasheet Link; ComponentLink2URL: https://www.we-online.com/redexpert/spec/560112116045?ad; Mount: Surface Mount; Operating Temperature Max: 155°C; Operating Temperature Min: -55°C; Packaging: Tape and Reel; Length: 1.6mm; Width: 0.8mm; Height: 0.45mm; Rated Power: 100mW; Resistance: 4700Ohm
footprint WRIS-RSKS_0603_Reflow
footprint WRIS-RSKS_0603_Wave
pins: 1, 2

## 560112116046
designator R?, comment 2200Ohm, 100mW  (value not drawn)
WRIS-RSKS Thick Film Resistor, size 0603, 2200Ohm, 100mW; Manufacturer Part Number: 560112116046; Manufacturer: Wurth Elektronik; Case/Size Code: 0603; Limiting Element Voltage: 75V; Resistance Tolerance: +/-5%; Temperature Coefficient of Resistance Min: -100ppm/°C; Temperature Coefficient of Resistance Max: 100ppm/°C; Category: Thick Film Resistors; Match Code: WRIS-RSKS; ComponentLink1Description: Website Link; ComponentLink1URL: https://www.we-online.com/redexpert/article/560112116046?ad; ComponentLink2Description: Datasheet Link; ComponentLink2URL: https://www.we-online.com/redexpert/spec/560112116046?ad; Mount: Surface Mount; Operating Temperature Max: 155°C; Operating Temperature Min: -55°C; Packaging: Tape and Reel; Length: 1.6mm; Width: 0.8mm; Height: 0.45mm; Rated Power: 100mW; Resistance: 2200Ohm
footprint WRIS-RSKS_0603_Reflow
footprint WRIS-RSKS_0603_Wave
pins: 1, 2

## 560112116047
designator R?, comment 3300Ohm, 100mW  (value not drawn)
WRIS-RSKS Thick Film Resistor, size 0603, 3300Ohm, 100mW; Manufacturer Part Number: 560112116047; Manufacturer: Wurth Elektronik; Case/Size Code: 0603; Limiting Element Voltage: 75V; Resistance Tolerance: +/-1%; Temperature Coefficient of Resistance Min: -100ppm/°C; Temperature Coefficient of Resistance Max: 100ppm/°C; Category: Thick Film Resistors; Match Code: WRIS-RSKS; ComponentLink1Description: Website Link; ComponentLink1URL: https://www.we-online.com/redexpert/article/560112116047?ad; ComponentLink2Description: Datasheet Link; ComponentLink2URL: https://www.we-online.com/redexpert/spec/560112116047?ad; Mount: Surface Mount; Operating Temperature Max: 155°C; Operating Temperature Min: -55°C; Packaging: Tape and Reel; Length: 1.6mm; Width: 0.8mm; Height: 0.45mm; Rated Power: 100mW; Resistance: 3300Ohm
footprint WRIS-RSKS_0603_Reflow
footprint WRIS-RSKS_0603_Wave
pins: 1, 2

## 560112116048
designator R?, comment 62000Ohm, 100mW  (value not drawn)
WRIS-RSKS Thick Film Resistor, size 0603, 62000Ohm, 100mW; Manufacturer Part Number: 560112116048; Manufacturer: Wurth Elektronik; Case/Size Code: 0603; Limiting Element Voltage: 75V; Resistance Tolerance: +/-1%; Temperature Coefficient of Resistance Min: -100ppm/°C; Temperature Coefficient of Resistance Max: 100ppm/°C; Category: Thick Film Resistors; Match Code: WRIS-RSKS; ComponentLink1Description: Website Link; ComponentLink1URL: https://www.we-online.com/redexpert/article/560112116048?ad; ComponentLink2Description: Datasheet Link; ComponentLink2URL: https://www.we-online.com/redexpert/spec/560112116048?ad; Mount: Surface Mount; Operating Temperature Max: 155°C; Operating Temperature Min: -55°C; Packaging: Tape and Reel; Length: 1.6mm; Width: 0.8mm; Height: 0.45mm; Rated Power: 100mW; Resistance: 62000Ohm
footprint WRIS-RSKS_0603_Reflow
footprint WRIS-RSKS_0603_Wave
pins: 1, 2

## 560112116049
designator R?, comment 150Ohm, 100mW  (value not drawn)
WRIS-RSKS Thick Film Resistor, size 0603, 150Ohm, 100mW; Manufacturer Part Number: 560112116049; Manufacturer: Wurth Elektronik; Case/Size Code: 0603; Limiting Element Voltage: 75V; Resistance Tolerance: +/-5%; Temperature Coefficient of Resistance Min: -100ppm/°C; Temperature Coefficient of Resistance Max: 100ppm/°C; Category: Thick Film Resistors; Match Code: WRIS-RSKS; ComponentLink1Description: Website Link; ComponentLink1URL: https://www.we-online.com/redexpert/article/560112116049?ad; ComponentLink2Description: Datasheet Link; ComponentLink2URL: https://www.we-online.com/redexpert/spec/560112116049?ad; Mount: Surface Mount; Operating Temperature Max: 155°C; Operating Temperature Min: -55°C; Packaging: Tape and Reel; Length: 1.6mm; Width: 0.8mm; Height: 0.45mm; Rated Power: 100mW; Resistance: 150Ohm
footprint WRIS-RSKS_0603_Reflow
footprint WRIS-RSKS_0603_Wave
pins: 1, 2

## 560112116050
designator R?, comment 18000Ohm, 100mW  (value not drawn)
WRIS-RSKS Thick Film Resistor, size 0603, 18000Ohm, 100mW; Manufacturer Part Number: 560112116050; Manufacturer: Wurth Elektronik; Case/Size Code: 0603; Limiting Element Voltage: 75V; Resistance Tolerance: +/-1%; Temperature Coefficient of Resistance Min: -100ppm/°C; Temperature Coefficient of Resistance Max: 100ppm/°C; Category: Thick Film Resistors; Match Code: WRIS-RSKS; ComponentLink1Description: Website Link; ComponentLink1URL: https://www.we-online.com/redexpert/article/560112116050?ad; ComponentLink2Description: Datasheet Link; ComponentLink2URL: https://www.we-online.com/redexpert/spec/560112116050?ad; Mount: Surface Mount; Operating Temperature Max: 155°C; Operating Temperature Min: -55°C; Packaging: Tape and Reel; Length: 1.6mm; Width: 0.8mm; Height: 0.45mm; Rated Power: 100mW; Resistance: 18000Ohm
footprint WRIS-RSKS_0603_Reflow
footprint WRIS-RSKS_0603_Wave
pins: 1, 2